# EAGLE library part MICRO-USB-5P (library OPL5)
ST-USB-001E?MICRO USB B SMD R/A
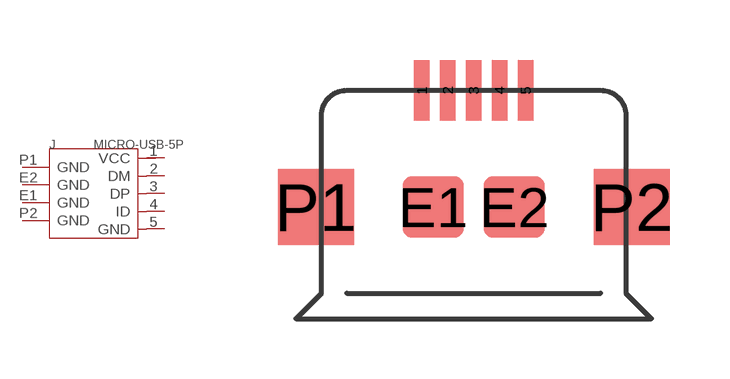
[diagram p22: symbol with the pads of B-SMD-5P; footprint B-SMD-5P]

Designator prefix J

## MICRO-USB-5P-3400150P1  [B-SMD-5P]
1  VCC  pas
2  DM  pas
3  DP  pas
4  ID  pas
5  GND  pas
E1  GND  pas
E2  GND  pas
P1  GND  pas
P2  GND  pas

## Footprint B-SMD-5P (pad centres in mm)
smd 0.38 x 1.52: 1 -1.3,2.54; 2 -0.65,2.54; 3 0,2.54; 4 0.65,2.54; 5 1.3,2.54
smd 1.524 x 1.524: E1 -1.016,-0.381; E2 1.016,-0.381
smd 1.9 x 1.9: P1 -3.95,-0.381; P2 3.95,-0.381